# Altium schematic symbol library Digital IC.SchLib: 1 symbol
Pins are listed as number, name and electrical type; pins without a type are passive.

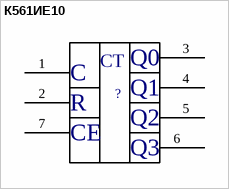
[diagram p0: symbol К561ИЕ10]

## К561ИЕ10
designator ?  (value not drawn)
Value: *
footprint DIGITAL_IC
pins: 1 0, 2 0, 3 0, 4 0, 5 0, 6 0, 7 0
text: CT; Q0; C; Q1; R; Q2; CE; Q3